# EAGLE library part WT12-UART (library sf-keyglovekit)
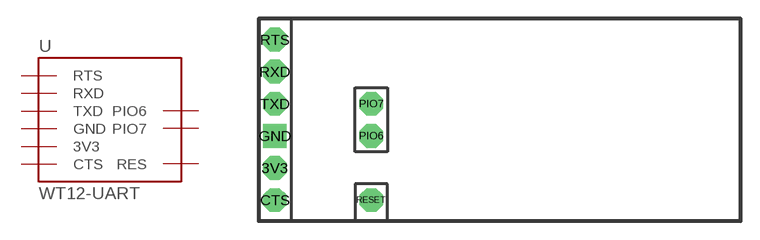
[diagram p3: symbol with the pads of WT12-UART; footprint WT12-UART]

Designator prefix -

## WT12-UART  [WT12-UART]
3V3  3V3  pwr
CTS  CTS  in
GND  GND  pwr
PIO6  PIO6
PIO7  PIO7
RESET  RES  in
RTS  RTS  out
RXD  RXD  in
TXD  TXD  out

## Footprint WT12-UART (pad centres in mm)
drill 1.016 pad 1.88 octagon: 3V3 1.27,4.191; CTS 1.27,1.651; PIO6 8.89,6.731; PIO7 8.89,9.271; RESET 8.89,1.651; RTS 1.27,14.351; RXD 1.27,11.811; TXD 1.27,9.271
drill 1.016 pad 1.88 square: GND 1.27,6.731